# Altium footprint library PcbLib1tp4056.PcbLib: 1 footprints
Each footprint in its own frame and in the unit in brackets; x right, y up, seen from the top. Pads: shape width x height; smd on the part's side, far side on the other; paste and mask are expansions set on the pad; w line width, h text height; cw(c..) or ccw(c..) is an arc to the next point about the centre after c.
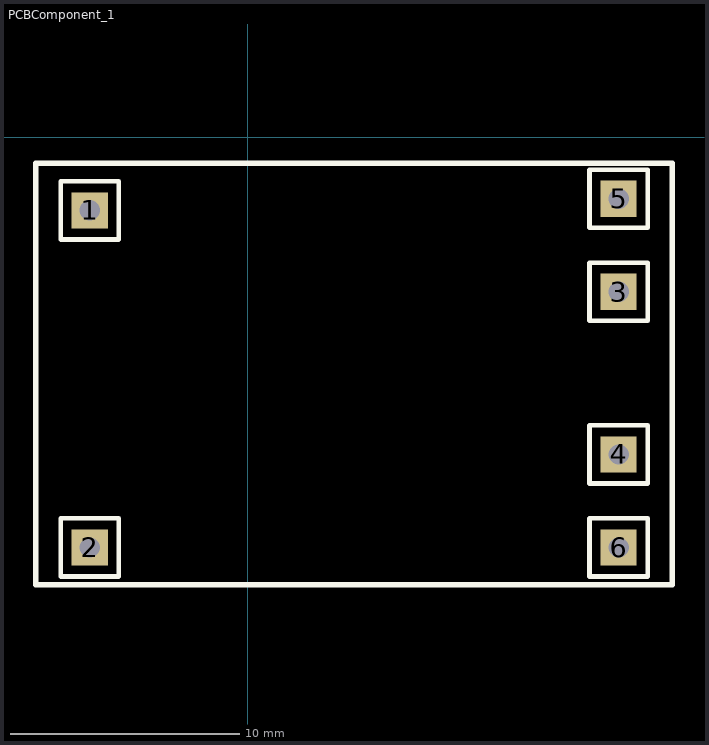
[diagram p0: the footprint, top view; thin cyan lines are the x and y axes]

## PCBComponent_1 [mil]
pads (6):
  rect 62x62 hole 35: 1(-272.22,-125.95) 2(-272.22,-705.95) 3(637.78,-265.95) 4(637.78,-545.95) 5(637.78,-105.95) 6(637.78,-705.95)
Top Overlay:
  lines w7.99: -222.22,-755.95 -222.22,-730.95 ; -222.22,-175.95 -222.22,-150.95 ; 687.78,-755.95 687.78,-730.95 ; 687.78,-595.95 687.78,-570.95 ; 687.78,-315.95 687.78,-290.95 ; 687.78,-155.95 687.78,-130.95
  lines w8: -222.22,-755.95 -322.22,-755.95 -322.22,-655.95 -222.22,-655.95 -222.22,-730.95 ; -222.22,-175.95 -322.22,-175.95 -322.22,-75.95 -222.22,-75.95 -222.22,-150.95 ; 687.78,-755.95 587.78,-755.95 587.78,-655.95 687.78,-655.95 687.78,-730.95 ; 687.78,-595.95 587.78,-595.95 587.78,-495.95 687.78,-495.95 687.78,-570.95 ; 687.78,-315.95 587.78,-315.95 587.78,-215.95 687.78,-215.95 687.78,-290.95 ; 687.78,-155.95 587.78,-155.95 587.78,-55.95 687.78,-55.95 687.78,-130.95
  lines w10: -365,-770 730,-770 730,-45 -365,-45 -365,-770